# Altium footprint library PcbLib1.PcbLib: 329 footprints (part 20 of 21)
Each footprint in its own frame and in the unit in brackets; x right, y up, seen from the top. Pads: shape width x height; smd on the part's side, far side on the other; paste and mask are expansions set on the pad; w line width, h text height; cw(c..) or ccw(c..) is an arc to the next point about the centre after c.
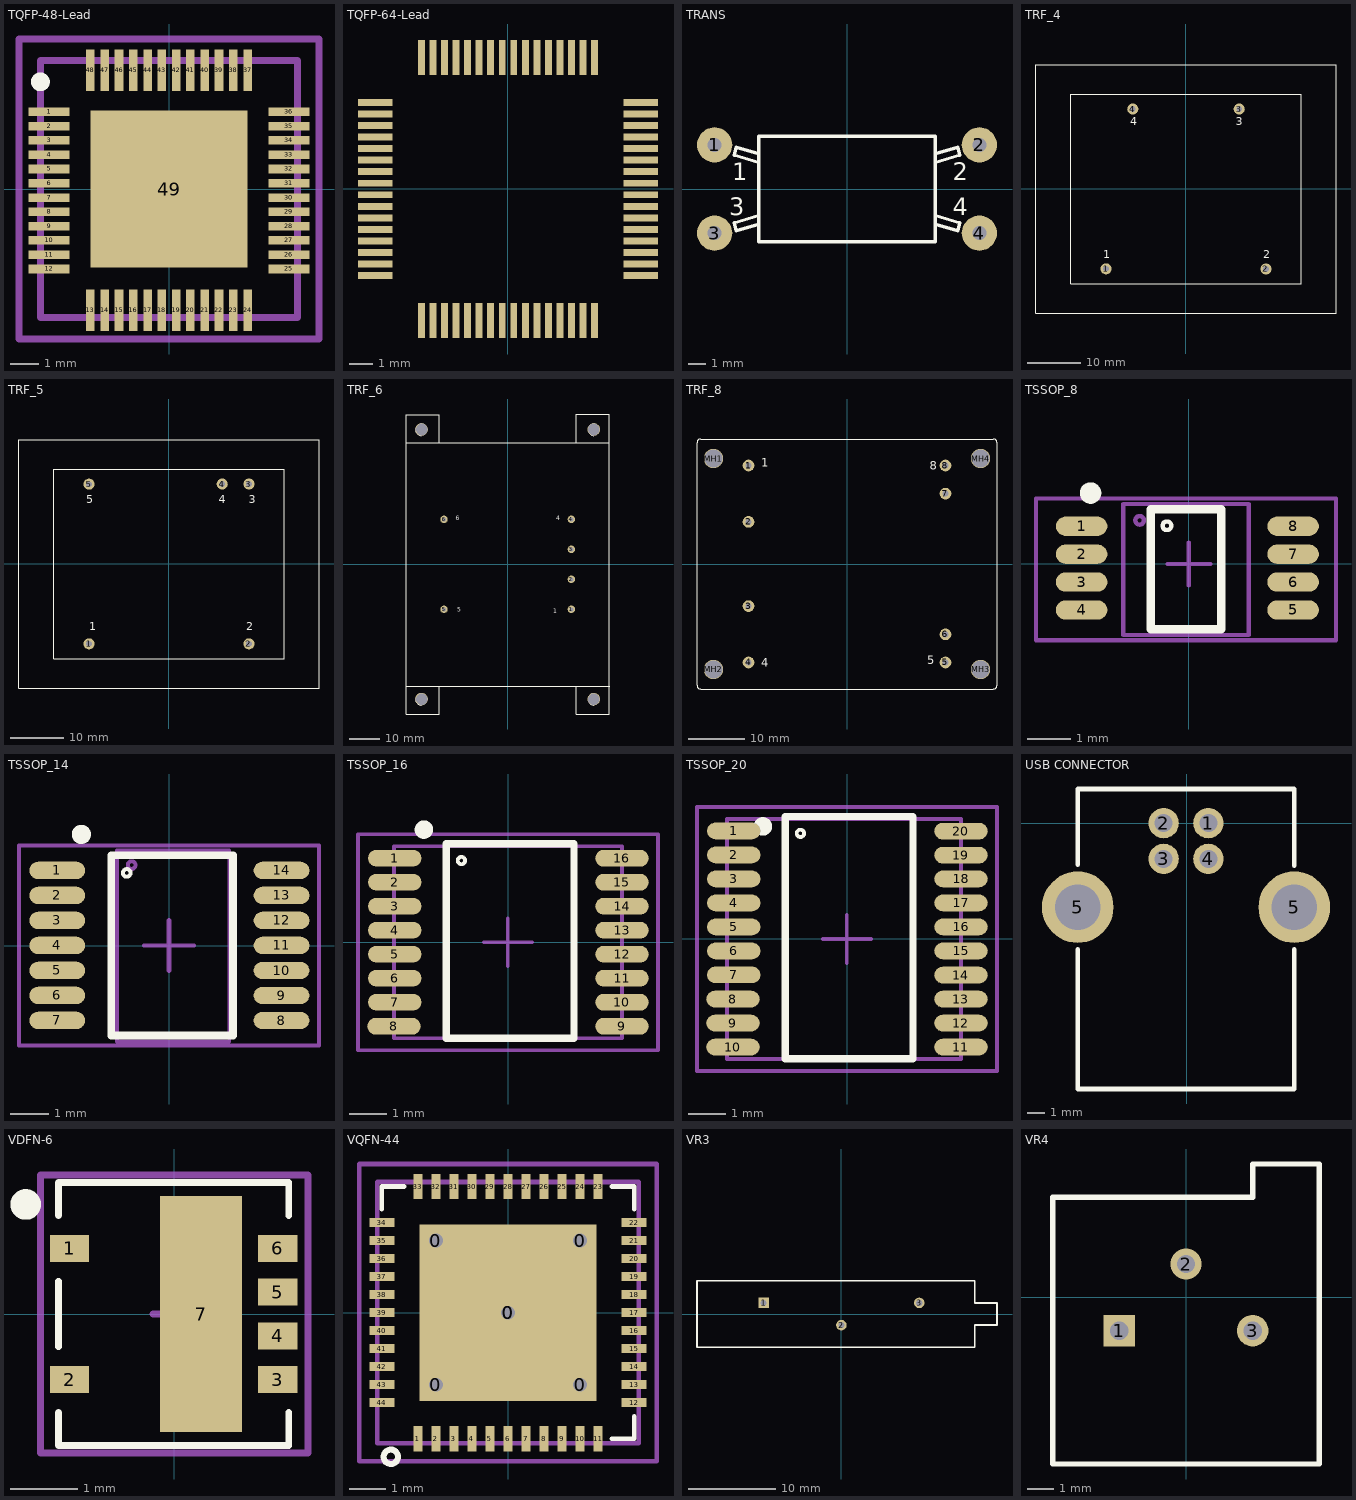
[diagram p19: the footprints below, top view; thin cyan lines are the x and y axes]

## TQFP-48-Lead [mm]
height 1
pads (49):
  rect 1.45x0.3 smd: 1(-4.2,2.7) 2(-4.2,2.2) 3(-4.2,1.7) 4(-4.2,1.2) 5(-4.2,0.7) 6(-4.2,0.2) 7(-4.2,-0.3) 8(-4.2,-0.8) 9(-4.2,-1.3) 10(-4.2,-1.8) 11(-4.2,-2.3) 12(-4.2,-2.8) 25(4.2,-2.8) 26(4.2,-2.3) 27(4.2,-1.8) 28(4.2,-1.3) 29(4.2,-0.8) 30(4.2,-0.3) 31(4.2,0.2) 32(4.2,0.7) 33(4.2,1.2) 34(4.2,1.7) 35(4.2,2.2) 36(4.2,2.7)
  rect 0.3x1.45 smd: 13(-2.75,-4.25) 14(-2.25,-4.25) 15(-1.75,-4.25) 16(-1.25,-4.25) 17(-0.75,-4.25) 18(-0.25,-4.25) 19(0.25,-4.25) 20(0.75,-4.25) 21(1.25,-4.25) 22(1.75,-4.25) 23(2.25,-4.25) 24(2.75,-4.25) 37(2.75,4.15) 38(2.25,4.15) 39(1.75,4.15) 40(1.25,4.15) 41(0.75,4.15) 42(0.25,4.15) 43(-0.25,4.15) 44(-0.75,4.15) 45(-1.25,4.15) 46(-1.75,4.15) 47(-2.25,4.15) 48(-2.75,4.15)
  rect 5.5x5.5 smd: 49(0,0)
Top Overlay:
  circle w0.4: c-4.5,3.75 r0.127
Mechanical 13:
  lines w0.254: -0.75,0 0.75,0 ; 0,-0.75 0,0.75 ; -4.5,-4.5 -4.5,4.5 4.5,4.5 4.5,-4.5 -4.5,-4.5
Mechanical 15:
  pour cut-out: -1.25,1.75
  lines w0.254: -0.75,0 0.75,0 ; 0,-0.75 0,0.75 ; -5.25,-5.25 -5.25,-2 -5.25,5.25 5.25,5.25 5.25,-5.25 -5.25,-5.25
3D body "User Library-TQFP-48.STEP": height 1.35, standoff -0.11, extent -4.5,-4.5 4.5,4.5

## TQFP-64-Lead [mm] "64-Lead Plastic Thin Quad Flatpack (PT)-10x10x1 mm Body, 2.00 mm Footprint [TQFP]"
height 1
pads (64):
  rect 0.3x1.5 smd: 1(-3.75,-5.7) 2(-3.25,-5.7) 3(-2.75,-5.7) 4(-2.25,-5.7) 5(-1.75,-5.7) 6(-1.25,-5.7) 7(-0.75,-5.7) 8(-0.25,-5.7) 9(0.25,-5.7) 10(0.75,-5.7) 11(1.25,-5.7) 12(1.75,-5.7) 13(2.25,-5.7) 14(2.75,-5.7) 15(3.25,-5.7) 16(3.75,-5.7) 33(3.75,5.7) 34(3.25,5.7) 35(2.75,5.7) 36(2.25,5.7) 37(1.75,5.7) 38(1.25,5.7) 39(0.75,5.7) 40(0.25,5.7) 41(-0.25,5.7) 42(-0.75,5.7) 43(-1.25,5.7) 44(-1.75,5.7) 45(-2.25,5.7) 46(-2.75,5.7) 47(-3.25,5.7) 48(-3.75,5.7)
  rect 1.5x0.3 smd: 17(5.75,-3.75) 18(5.75,-3.25) 19(5.75,-2.75) 20(5.75,-2.25) 21(5.75,-1.75) 22(5.75,-1.25) 23(5.75,-0.75) 24(5.75,-0.25) 25(5.75,0.25) 26(5.75,0.75) 27(5.75,1.25) 28(5.75,1.75) 29(5.75,2.25) 30(5.75,2.75) 31(5.75,3.25) 32(5.75,3.75) 49(-5.75,3.75) 50(-5.75,3.25) 51(-5.75,2.75) 52(-5.75,2.25) 53(-5.75,1.75) 54(-5.75,1.25) 55(-5.75,0.75) 56(-5.75,0.25) 57(-5.75,-0.25) 58(-5.75,-0.75) 59(-5.75,-1.25) 60(-5.75,-1.75) 61(-5.75,-2.25) 62(-5.75,-2.75) 63(-5.75,-3.25) 64(-5.75,-3.75)
3D body "TQFP64.STEP": height 1.1, standoff -0.1, extent -6.1,-6.1 6.1,6.1

## TRANS [mm] "Transformer; 4 Leads"
pads (4):
  round 2 hole 0.8: 1(-7.5,2.5) 2(7.5,2.5) 3(-7.5,-2.5) 4(7.5,-2.5)
Top Overlay:
  lines w0.2: -5,-2 -6.275,-2.375 -6.4,-1.925 -5,-1.5 ; -5,1.5 -6.4,1.925 -6.275,2.375 -5,2 ; 5,-2 6.275,-2.375 6.4,-1.925 5,-1.5 ; 5,1.5 6.4,1.925 6.275,2.375 5,2 ; -5,-3 5,-3 5,3 -5,3 -5,-3
  text "1" at -6.5,0.5 h1
  text "2" at 6,0.5 h1
  text "3" at -6.675,-1.5 h1
  text "4" at 6,-1.5 h1

## TRF_4 [mil] "Transformer; 4 Leads"
pads (4):
  round 82 hole 42: 1(-590.83,-590) 2(590.83,-590.83) 3(393.33,590.83) 4(-393.33,590.83)
Top Overlay:
  lines w8: -1108.33,-916.67 1108.33,-916.67 1108.33,916.67 -1108.33,916.67 -1108.33,-916.67 ; -850,-700 -850,700 850,700 850,-700 -850,-700
  text "1" at -610.83,-510 h59.06
  text "2" at 569.17,-510 h59.06
  text "4" at -410.83,470 h59.06
  text "3" at 369.17,470 h59.06

## TRF_5 [mil] "Transformer; 5 Leads"
pads (5):
  round 82 hole 42: 1(-590.83,-590.42) 2(590.83,-590.42) 3(590.83,590.42) 4(393.33,590.42) 5(-590.83,589.58)
Top Overlay:
  lines w8: -1108.33,-917.08 -1108.33,916.25 1108.33,916.25 1108.33,-917.08 -1108.33,-917.08 ; -850,-700.42 850,-700.42 850,699.58 -850,699.58 -850,-700.42
  text "5" at -610.83,449.58 h59.06
  text "1" at -590.83,-490.42 h59.06
  text "4" at 369.17,449.58 h59.06
  text "3" at 589.17,449.58 h59.06
  text "2" at 569.17,-490.42 h59.06

## TRF_6 [mil] "Transformer; 6 Leads"
pads (10):
  round 98 hole 52: 1(836.67,-590.83) 2(836.67,-196.67) 3(836.67,196.67) 4(836.67,590.83) 5(-836.67,-590.83) 6(-836.67,590.83)
  round 165 hole 152: MH1(-1131.67,-1771.67) MH2(1131.67,-1771.67) MH3(1131.67,1771.67) MH4(-1131.67,1771.67)
Top Overlay:
  lines w8: -1333.33,-1600 1341.67,-1600 ; -1333.33,1600 1333.33,1600 ; -1133.33,-1850 cw(c-1133.33,-1775) -1133.33,-1700 ; -1133.33,1691.67 cw(c-1133.33,1766.67) -1133.33,1841.67 ; -900,-1600 -900,-1966.67 -1333.33,-1966.67 -1333.33,1966.67 -900,1966.67 -900,1600 ; 900,-1600 900,-1966.67 1333.33,-1966.67 1333.33,1966.67 ; 900,1600 900,1975 1333.33,1975 ; 1133.33,-1850 cw(c1133.33,-1775) 1133.33,-1700 ; 1133.33,1691.67 cw(c1133.33,1766.67) 1133.33,1841.67
  text "6" at -680,580 h59.06
  text "4" at 640,580 h59.06
  text "1" at 600,-640 h59.06
  text "5" at -660,-620 h59.06

## TRF_8 [mil] "Transformer; 8 Leads"
pads (12):
  round 82 hole 42: 1(-689.17,689.17) 2(-689.17,295) 3(-689.17,-295) 4(-689.17,-689.17) 5(689.17,-689.17) 6(689.17,-492.5) 7(689.17,492.5) 8(689.17,689.17)
  round 135 hole 125: MH1(-935,738.33) MH2(-935,-738.33) MH3(935,-738.33) MH4(935,738.33)
Top Overlay:
  lines w8: -1050,-850 ccw(c-1025,-850) -1025,-875 1025,-875 ccw(c1025,-850) 1050,-850 1050,850 ccw(c1025,850) 1025,875 -1025,875 ccw(c-1025,850) -1050,850 -1050,-850
  text "1" at -600,680 h59.06
  text "5" at 560,-700 h59.06
  text "8" at 580,660 h59.06
  text "4" at -600,-720 h59.06

## TSSOP_8 [mm] "TSSOP_8"
height 2
pads (8):
  oval 1.2x0.45 smd: 1(-2.494,0.878) 2(-2.494,0.228) 3(-2.494,-0.422) 4(-2.494,-1.072) 5(2.43,-1.072) 6(2.43,-0.422) 7(2.43,0.228) 8(2.43,0.878)
Top Overlay:
  circle w0.25: c-2.286,1.651 r0.125
  circle w0.1: c-0.508,0.889 r0.1
  lines w0.2: -0.889,-1.524 -0.063,-1.524 0.762,-1.524 0.762,-0.699 0.762,-0.635 0.762,1.27 -0.889,1.27 -0.889,-1.524
Mechanical 13:
  circle w0.1: c-1.143,1.016 r0.1
  lines w0.1: -1.524,-1.655 -1.524,1.397 1.397,1.397 1.397,-1.655 -1.524,-1.655
Mechanical 15:
  lines w0.1: -0.492,0 0.508,0 ; 0,-0.5 0,0.5 ; -3.556,-1.778 -3.556,1.524 3.429,1.524 3.429,-1.778 -3.556,-1.778
3D body "TSSOP-8 3.1x3.1.STEP": height 1.02, standoff -0.08, extent -2.5,-1.652 2.5,1.448

## TSSOP_14 [mm] "TSSOP_14"
height 2
pads (14):
  oval 1.45x0.45 smd: 1(-2.905,1.953) 2(-2.905,1.303) 3(-2.905,0.653) 4(-2.905,0.003) 5(-2.905,-0.647) 6(-2.905,-1.297) 7(-2.905,-1.947) 8(2.925,-1.95) 9(2.925,-1.3) 10(2.925,-0.65) 11(2.925,0.003) 12(2.925,0.653) 13(2.925,1.303) 14(2.925,1.953)
Top Overlay:
  circle w0.1: c-1.099,1.888 r0.1
  circle w0.25: c-2.278,2.889 r0.125
  lines w0.2: -1.505,-2.337 1.664,-2.337 1.664,-0.355 1.664,1.171 1.664,2.345 -1.505,2.345 -1.505,-2.337
Mechanical 13:
  circle w0.1: c-0.973,2.091 r0.1
  lines w0.1: -1.354,-2.5 1.567,-2.5 1.567,2.472 -1.354,2.472 -1.354,-2.5
Mechanical 15:
  lines w0.1: -0.65,0 0.65,0 ; -3.9,-2.6 3.9,-2.6 3.9,2.599 -3.9,2.599 -3.9,-2.6
  lines w0.127: 0,-0.65 0,0.65
3D body "User Library-TSSOP14-1.step": height 1, standoff -0.1, extent -3.2,-2.5 3.2,2.5

## TSSOP_16 [mm] "TSSOP_14"
height 2
pads (16):
  oval 1.45x0.45 smd: 1(-3.068,2.275) 2(-3.068,1.625) 3(-3.068,0.975) 4(-3.068,0.325) 5(-3.068,-0.325) 6(-3.068,-0.975) 7(-3.068,-1.625) 8(-3.088,-2.278) 9(3.087,-2.278) 10(3.087,-1.628) 11(3.087,-0.975) 12(3.087,-0.325) 13(3.087,0.325) 14(3.087,0.975) 15(3.087,1.622) 16(3.087,2.272)
Top Overlay:
  circle w0.25: c-2.279,3.048 r0.125
  circle w0.1: c-1.262,2.209 r0.1
  lines w0.2: -1.668,-2.603 -1.668,2.667 1.787,2.667 1.787,-2.603 -1.668,-2.603
Mechanical 13:
  lines w0.1: -3.087,-2.6 -3.087,2.6 3.087,2.6 3.087,-2.6 -3.087,-2.6
Mechanical 15:
  lines w0.1: -0.651,-0.003 0.649,-0.003 ; -0.009,-0.653 -0.009,0.647 ; -4.063,-2.928 -4.063,2.922 4.062,2.922 4.062,-2.928 -4.063,-2.928
3D body "User Library-TSSOP-16-1.step": height 1, standoff -0.1, extent -3.2,-2.503 3.2,2.497

## TSSOP_20 [mm] "TSSOP_20"
height 2
pads (20):
  oval 1.45x0.45 smd: 1(-3.068,2.925) 2(-3.068,2.275) 3(-3.068,1.625) 4(-3.068,0.975) 5(-3.068,0.325) 6(-3.068,-0.325) 7(-3.068,-0.975) 8(-3.088,-1.628) 9(-3.088,-2.278) 10(-3.088,-2.928) 11(3.087,-2.928) 12(3.087,-2.278) 13(3.087,-1.628) 14(3.087,-0.978) 15(3.087,-0.325) 16(3.087,0.325) 17(3.087,0.975) 18(3.087,1.625) 19(3.087,2.272) 20(3.087,2.922)
Top Overlay:
  circle w0.25: c-2.279,3.048 r0.125
  circle w0.1: c-1.262,2.859 r0.1
  lines w0.2: -1.668,-3.25 -1.668,3.317 1.787,3.317 1.787,-3.25 -1.668,-3.25
Mechanical 13:
  lines w0.1: -3.25,-3.25 3.087,-3.25 3.087,3.25 -3.25,3.25 -3.25,-3.25
Mechanical 15:
  lines w0.1: -0.65,0 0.65,0 ; -0.008,-0.65 -0.008,0.65 ; -4.063,-3.575 -4.063,3.572 4.062,3.572 4.062,-3.575 -4.063,-3.575
3D body "User Library-tssop-20-1.step": height 1.2, standoff 0, extent -3.3,-3.3 3.3,3.3

## USB CONNECTOR [mm] "USB B CONNECTOR"
height 10
pads (6):
  round 1.7 hole 1.016: 1(1.2,0) 2(-1.3,0) 3(-1.3,-2) 4(1.2,-2)
  round 4 hole 2.54: 5(-6.1,-4.7) 5(6,-4.7)
Top Overlay:
  lines w0.254: -6.096,-7.061 -6.096,-14.859 5.994,-14.859 5.994,-7.061 ; -6.096,-2.337 -6.096,1.905 5.994,1.905 5.994,-2.388
3D body "USB_CONNECTOR.STEP": height 11, standoff -4.22, extent -7.53,-14.975 7.33,2.025

## VDFN-6 [mm]
pads (7):
  rect 0.58x0.4 smd: 1(-1.553,0.975) 2(-1.553,-0.975) 3(1.534,-0.975) 4(1.534,-0.325) 5(1.534,0.325) 6(1.534,0.975)
  rect 1.21x3.5 smd: 7(0.397,0)
Top Overlay:
  circle w0.254: c-2.203,1.625 r0.1
  lines w0.1: -1.716,-1.463 -1.716,-1.95 1.697,-1.95 1.697,-1.463 ; -1.716,-0.487 -1.716,0.487 ; -1.716,1.462 -1.716,1.95 1.697,1.95 1.697,1.462
Mechanical 15:
  lines w0.102: -0.318,0 0.318,0 ; 0,-0.318 0,0.318 ; -1.984,-2.064 1.984,-2.064 1.984,2.064 -1.984,2.064 -1.984,-2.064

## VQFN-44 [mm]
height 1
pads (50):
  round 0.711 hole 0.381: 0(-2,-2) 0(-2,2) 0(0,0) 0(2,-2) 0(2,2)
  rect 4.9x4.9 smd: 0(0,0)
  rect 0.25x0.7 smd: 1(-2.5,-3.5) 2(-2,-3.5) 3(-1.5,-3.5) 4(-1,-3.5) 5(-0.5,-3.5) 6(0,-3.5) 7(0.5,-3.5) 8(1,-3.5) 9(1.5,-3.5) 10(2,-3.5) 11(2.5,-3.5) 23(2.5,3.5) 24(2,3.5) 25(1.5,3.5) 26(1,3.5) 27(0.5,3.5) 28(0,3.5) 29(-0.5,3.5) 30(-1,3.5) 31(-1.5,3.5) 32(-2,3.5) 33(-2.5,3.5)
  rect 0.7x0.25 smd: 12(3.5,-2.5) 13(3.5,-2) 14(3.5,-1.5) 15(3.5,-1) 16(3.5,-0.5) 17(3.5,0) 18(3.5,0.5) 19(3.5,1) 20(3.5,1.5) 21(3.5,2) 22(3.5,2.5) 34(-3.5,2.5) 35(-3.5,2) 36(-3.5,1.5) 37(-3.5,1) 38(-3.5,0.5) 39(-3.5,0) 40(-3.5,-0.5) 41(-3.5,-1) 42(-3.5,-1.5) 43(-3.5,-2) 44(-3.5,-2.5)
Top Overlay:
  circle w0.167: c-3.25,-4 r0.2
  lines w0.127: -3.5,2.875 -3.5,3.5 -2.875,3.5 ; 2.875,-3.5 3.5,-3.5 3.5,-2.875 ; 2.875,3.5 3.5,3.5 3.5,2.875
Mechanical 13:
  lines w0.127: -3.625,-3.625 3.625,-3.625 3.625,3.625 -3.625,3.625 -3.625,-3.625
Mechanical 15:
  lines w0.127: -0.375,0 0.375,0 ; 0,-0.375 0,0.375 ; -4.125,-4.125 -4.125,4.125 4.125,4.125 4.125,-4.125 -4.125,-4.125
3D body "User Library-VQFN(44).step": height 0.9, standoff -0.05, extent -3.537,-3.537 3.563,3.563

## VR3 [mm] "Thru-Hole; 3 Leads"
pads (3):
  rect 1.2x1.2 hole 0.7: 1(-8.89,1.27)
  round 1.2 hole 0.7: 2(0,-1.27) 3(8.89,1.27)
Top Overlay:
  lines w0.2: -16.51,-3.81 -16.51,3.81 15.24,3.81 15.24,1.27 17.78,1.27 17.78,-1.27 15.24,-1.27 15.24,-3.81 -16.51,-3.81

## VR4 [mm] "Thru-Hole; 3 Leads"
pads (3):
  rect 1.2x1.2 hole 0.7: 1(-2.54,-1.27)
  round 1.2 hole 0.7: 2(0,1.27) 3(2.54,-1.27)
Top Overlay:
  lines w0.2: -5.08,-6.35 5.08,-6.35 5.08,5.08 2.54,5.08 2.54,3.81 -5.08,3.81 -5.08,-6.35